# Altium footprint library MAX11625EEG&plus_.PcbLib: 3 footprints
Each footprint in its own frame and in the unit in brackets; x right, y up, seen from the top. Pads: shape width x height; smd on the part's side, far side on the other; paste and mask are expansions set on the pad; w line width, h text height; cw(c..) or ccw(c..) is an arc to the next point about the centre after c.
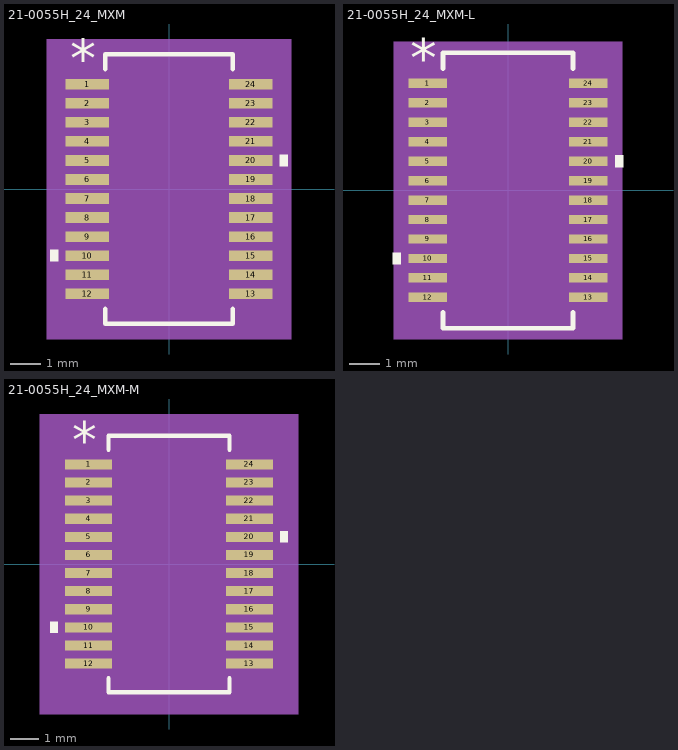
[diagram p0: the footprints below, top view; thin cyan lines are the x and y axes]

## 21-0055H_24_MXM [mil]
pads (24):
  rect 57.28x13.97 smd paste+0 mask+0: 1(-107.14,137.5) 2(-107.14,112.5) 3(-107.14,87.5) 4(-107.14,62.5) 5(-107.14,37.5) 6(-107.14,12.5) 7(-107.14,-12.5) 8(-107.14,-37.5) 9(-107.14,-62.5) 10(-107.14,-87.5) 11(-107.14,-112.5) 12(-107.14,-137.5) 13(107.14,-137.5) 14(107.14,-112.5) 15(107.14,-87.5) 16(107.14,-62.5) 17(107.14,-37.5) 18(107.14,-12.5) 19(107.14,12.5) 20(107.14,37.5) 21(107.14,62.5) 22(107.14,87.5) 23(107.14,112.5) 24(107.14,137.5)
Top Overlay:
  region: -145.78,-80 -155.78,-80 -155.78,-95 -145.78,-95
  region: 145.78,45 155.78,45 155.78,30 145.78,30
  lines w6: -83.5,-157.58 -83.5,-177 83.5,-177 83.5,-157.58 ; -83.5,157.58 -83.5,177 83.5,177 83.5,157.58
  text "*" at -129.64,146.47 h50
Mechanical 5:
  region: 160.78,-197 -160.78,-197 -160.78,197 160.78,197
Mechanical 13:
  lines w0: -12,172 ccw(c0,172) 12,172
  lines w1: -122,-143.5 -122,-131.5 -78.5,-131.5 -78.5,-143.5 -122,-143.5 ; -122,-118.5 -122,-106.5 -78.5,-106.5 -78.5,-118.5 -122,-118.5 ; -122,-93.5 -122,-81.5 -78.5,-81.5 -78.5,-93.5 -122,-93.5 ; -122,-68.5 -122,-56.5 -78.5,-56.5 -78.5,-68.5 -122,-68.5 ; -122,-43.5 -122,-31.5 -78.5,-31.5 -78.5,-43.5 -122,-43.5 ; -122,-18.5 -122,-6.5 -78.5,-6.5 -78.5,-18.5 -122,-18.5 ; -122,6.5 -122,18.5 -78.5,18.5 -78.5,6.5 -122,6.5 ; -122,31.5 -122,43.5 -78.5,43.5 -78.5,31.5 -122,31.5 ; -122,56.5 -122,68.5 -78.5,68.5 -78.5,56.5 -122,56.5 ; -122,81.5 -122,93.5 -78.5,93.5 -78.5,81.5 -122,81.5 ; -122,106.5 -122,118.5 -78.5,118.5 -78.5,106.5 -122,106.5 ; -122,131.5 -122,143.5 -78.5,143.5 -78.5,131.5 -122,131.5 ; -78.5,-172 78.5,-172 78.5,172 -78.5,172 -78.5,-172 ; 78.5,-143.5 78.5,-131.5 122,-131.5 122,-143.5 78.5,-143.5 ; 78.5,-118.5 78.5,-106.5 122,-106.5 122,-118.5 78.5,-118.5 ; 78.5,-93.5 78.5,-81.5 122,-81.5 122,-93.5 78.5,-93.5 ; 78.5,-68.5 78.5,-56.5 122,-56.5 122,-68.5 78.5,-68.5 ; 78.5,-43.5 78.5,-31.5 122,-31.5 122,-43.5 78.5,-43.5 ; 78.5,-18.5 78.5,-6.5 122,-6.5 122,-18.5 78.5,-18.5 ; 78.5,6.5 78.5,18.5 122,18.5 122,6.5 78.5,6.5 ; 78.5,31.5 78.5,43.5 122,43.5 122,31.5 78.5,31.5 ; 78.5,56.5 78.5,68.5 122,68.5 122,56.5 78.5,56.5 ; 78.5,81.5 78.5,93.5 122,93.5 122,81.5 78.5,81.5 ; 78.5,106.5 78.5,118.5 122,118.5 122,106.5 78.5,106.5 ; 78.5,131.5 78.5,143.5 122,143.5 122,131.5 78.5,131.5
  text "*" at -76,119 h50
Mechanical 15:
  region: -88.5,-154.48 -145.78,-154.48 -145.78,154.48 -88.5,154.48 -88.5,182 88.5,182 88.5,154.48 145.78,154.48 145.78,-154.48 88.5,-154.48 88.5,-182 -88.5,-182
  lines w6: -145.78,-154.48 -145.78,154.48 -88.5,154.48 -88.5,182 88.5,182 88.5,154.48 145.78,154.48 145.78,-154.48 88.5,-154.48 88.5,-182 -88.5,-182 -88.5,-154.48 -145.78,-154.48
3D body "21-0055H_24_MXM.step": height 69.09, standoff 0, extent -122.01,-172.01 122.01,172.01

## 21-0055H_24_MXM-L [mil]
pads (24):
  rect 49.41x12 smd paste+0 mask+0: 1(-103.2,137.5) 2(-103.2,112.5) 3(-103.2,87.5) 4(-103.2,62.5) 5(-103.2,37.5) 6(-103.2,12.5) 7(-103.2,-12.5) 8(-103.2,-37.5) 9(-103.2,-62.5) 10(-103.2,-87.5) 11(-103.2,-112.5) 12(-103.2,-137.5) 13(103.2,-137.5) 14(103.2,-112.5) 15(103.2,-87.5) 16(103.2,-62.5) 17(103.2,-37.5) 18(103.2,-12.5) 19(103.2,12.5) 20(103.2,37.5) 21(103.2,62.5) 22(103.2,87.5) 23(103.2,112.5) 24(103.2,137.5)
Top Overlay:
  region: -137.91,-80 -147.91,-80 -147.91,-95 -137.91,-95
  region: 137.91,45 147.91,45 147.91,30 137.91,30
  lines w6: -83.5,-156.6 -83.5,-177 83.5,-177 83.5,-156.6 ; -83.5,156.6 -83.5,177 83.5,177 83.5,156.6
  text "*" at -125.7,144.5 h50
Mechanical 5:
  region: 146.91,-191 -146.91,-191 -146.91,191 146.91,191
Mechanical 13:
  lines w0: -12,172 ccw(c0,172) 12,172
  lines w1: -122,-143.5 -122,-131.5 -78.5,-131.5 -78.5,-143.5 -122,-143.5 ; -122,-118.5 -122,-106.5 -78.5,-106.5 -78.5,-118.5 -122,-118.5 ; -122,-93.5 -122,-81.5 -78.5,-81.5 -78.5,-93.5 -122,-93.5 ; -122,-68.5 -122,-56.5 -78.5,-56.5 -78.5,-68.5 -122,-68.5 ; -122,-43.5 -122,-31.5 -78.5,-31.5 -78.5,-43.5 -122,-43.5 ; -122,-18.5 -122,-6.5 -78.5,-6.5 -78.5,-18.5 -122,-18.5 ; -122,6.5 -122,18.5 -78.5,18.5 -78.5,6.5 -122,6.5 ; -122,31.5 -122,43.5 -78.5,43.5 -78.5,31.5 -122,31.5 ; -122,56.5 -122,68.5 -78.5,68.5 -78.5,56.5 -122,56.5 ; -122,81.5 -122,93.5 -78.5,93.5 -78.5,81.5 -122,81.5 ; -122,106.5 -122,118.5 -78.5,118.5 -78.5,106.5 -122,106.5 ; -122,131.5 -122,143.5 -78.5,143.5 -78.5,131.5 -122,131.5 ; -78.5,-172 78.5,-172 78.5,172 -78.5,172 -78.5,-172 ; 78.5,-143.5 78.5,-131.5 122,-131.5 122,-143.5 78.5,-143.5 ; 78.5,-118.5 78.5,-106.5 122,-106.5 122,-118.5 78.5,-118.5 ; 78.5,-93.5 78.5,-81.5 122,-81.5 122,-93.5 78.5,-93.5 ; 78.5,-68.5 78.5,-56.5 122,-56.5 122,-68.5 78.5,-68.5 ; 78.5,-43.5 78.5,-31.5 122,-31.5 122,-43.5 78.5,-43.5 ; 78.5,-18.5 78.5,-6.5 122,-6.5 122,-18.5 78.5,-18.5 ; 78.5,6.5 78.5,18.5 122,18.5 122,6.5 78.5,6.5 ; 78.5,31.5 78.5,43.5 122,43.5 122,31.5 78.5,31.5 ; 78.5,56.5 78.5,68.5 122,68.5 122,56.5 78.5,56.5 ; 78.5,81.5 78.5,93.5 122,93.5 122,81.5 78.5,81.5 ; 78.5,106.5 78.5,118.5 122,118.5 122,106.5 78.5,106.5 ; 78.5,131.5 78.5,143.5 122,143.5 122,131.5 78.5,131.5
  text "*" at -76,119 h50
Mechanical 15:
  region: -82.5,-147.5 -131.91,-147.5 -131.91,147.5 -82.5,147.5 -82.5,176 82.5,176 82.5,147.5 131.91,147.5 131.91,-147.5 82.5,-147.5 82.5,-176 -82.5,-176
  lines w6: -131.91,-147.5 -131.91,147.5 -82.5,147.5 -82.5,176 82.5,176 82.5,147.5 131.91,147.5 131.91,-147.5 82.5,-147.5 82.5,-176 -82.5,-176 -82.5,-147.5 -131.91,-147.5
3D body "21-0055H_24_MXM.step": height 69.09, standoff 0, extent -122.01,-172.01 122.01,172.01

## 21-0055H_24_MXM-M [mil]
pads (24):
  rect 65.15x13.97 smd paste+0 mask+0: 1(-111.08,137.5) 2(-111.08,112.5) 3(-111.08,87.5) 4(-111.08,62.5) 5(-111.08,37.5) 6(-111.08,12.5) 7(-111.08,-12.5) 8(-111.08,-37.5) 9(-111.08,-62.5) 10(-111.08,-87.5) 11(-111.08,-112.5) 12(-111.08,-137.5) 13(111.08,-137.5) 14(111.08,-112.5) 15(111.08,-87.5) 16(111.08,-62.5) 17(111.08,-37.5) 18(111.08,-12.5) 19(111.08,12.5) 20(111.08,37.5) 21(111.08,62.5) 22(111.08,87.5) 23(111.08,112.5) 24(111.08,137.5)
Top Overlay:
  region: -153.65,-80 -163.65,-80 -163.65,-95 -153.65,-95
  region: 153.65,45 163.65,45 163.65,30 153.65,30
  lines w6: -83.5,-157.58 -83.5,-177 83.5,-177 83.5,-157.58 ; -83.5,157.58 -83.5,177 83.5,177 83.5,157.58
  text "*" at -133.58,146.47 h50
Mechanical 5:
  region: 178.65,-207 -178.65,-207 -178.65,207 178.65,207
Mechanical 13:
  lines w0: -12,172 ccw(c0,172) 12,172
  lines w1: -122,-143.5 -122,-131.5 -78.5,-131.5 -78.5,-143.5 -122,-143.5 ; -122,-118.5 -122,-106.5 -78.5,-106.5 -78.5,-118.5 -122,-118.5 ; -122,-93.5 -122,-81.5 -78.5,-81.5 -78.5,-93.5 -122,-93.5 ; -122,-68.5 -122,-56.5 -78.5,-56.5 -78.5,-68.5 -122,-68.5 ; -122,-43.5 -122,-31.5 -78.5,-31.5 -78.5,-43.5 -122,-43.5 ; -122,-18.5 -122,-6.5 -78.5,-6.5 -78.5,-18.5 -122,-18.5 ; -122,6.5 -122,18.5 -78.5,18.5 -78.5,6.5 -122,6.5 ; -122,31.5 -122,43.5 -78.5,43.5 -78.5,31.5 -122,31.5 ; -122,56.5 -122,68.5 -78.5,68.5 -78.5,56.5 -122,56.5 ; -122,81.5 -122,93.5 -78.5,93.5 -78.5,81.5 -122,81.5 ; -122,106.5 -122,118.5 -78.5,118.5 -78.5,106.5 -122,106.5 ; -122,131.5 -122,143.5 -78.5,143.5 -78.5,131.5 -122,131.5 ; -78.5,-172 78.5,-172 78.5,172 -78.5,172 -78.5,-172 ; 78.5,-143.5 78.5,-131.5 122,-131.5 122,-143.5 78.5,-143.5 ; 78.5,-118.5 78.5,-106.5 122,-106.5 122,-118.5 78.5,-118.5 ; 78.5,-93.5 78.5,-81.5 122,-81.5 122,-93.5 78.5,-93.5 ; 78.5,-68.5 78.5,-56.5 122,-56.5 122,-68.5 78.5,-68.5 ; 78.5,-43.5 78.5,-31.5 122,-31.5 122,-43.5 78.5,-43.5 ; 78.5,-18.5 78.5,-6.5 122,-6.5 122,-18.5 78.5,-18.5 ; 78.5,6.5 78.5,18.5 122,18.5 122,6.5 78.5,6.5 ; 78.5,31.5 78.5,43.5 122,43.5 122,31.5 78.5,31.5 ; 78.5,56.5 78.5,68.5 122,68.5 122,56.5 78.5,56.5 ; 78.5,81.5 78.5,93.5 122,93.5 122,81.5 78.5,81.5 ; 78.5,106.5 78.5,118.5 122,118.5 122,106.5 78.5,106.5 ; 78.5,131.5 78.5,143.5 122,143.5 122,131.5 78.5,131.5
  text "*" at -76,119 h50
Mechanical 15:
  region: -98.5,-164.48 -163.65,-164.48 -163.65,164.48 -98.5,164.48 -98.5,192 98.5,192 98.5,164.48 163.65,164.48 163.65,-164.48 98.5,-164.48 98.5,-192 -98.5,-192
  lines w6: -163.65,-164.48 -163.65,164.48 -98.5,164.48 -98.5,192 98.5,192 98.5,164.48 163.65,164.48 163.65,-164.48 98.5,-164.48 98.5,-192 -98.5,-192 -98.5,-164.48 -163.65,-164.48
3D body "21-0055H_24_MXM.step": height 69.09, standoff 0, extent -122.01,-172.01 122.01,172.01